# Altium schematic symbol library JUMPER.Schlib: 2 symbols
Pins are listed as number, name and electrical type; pins without a type are passive.

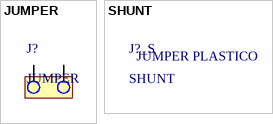
[diagram p0: symbols JUMPER to SHUNT]

## JUMPER
designator J?
pins: 1, 2

## SHUNT
designator J?_S  (mechanical)
text: JUMPER PLASTICO